# Altium schematic symbol library Modules.SchLib: 8 symbols
Pins are listed as number, name and electrical type; pins without a type are passive.

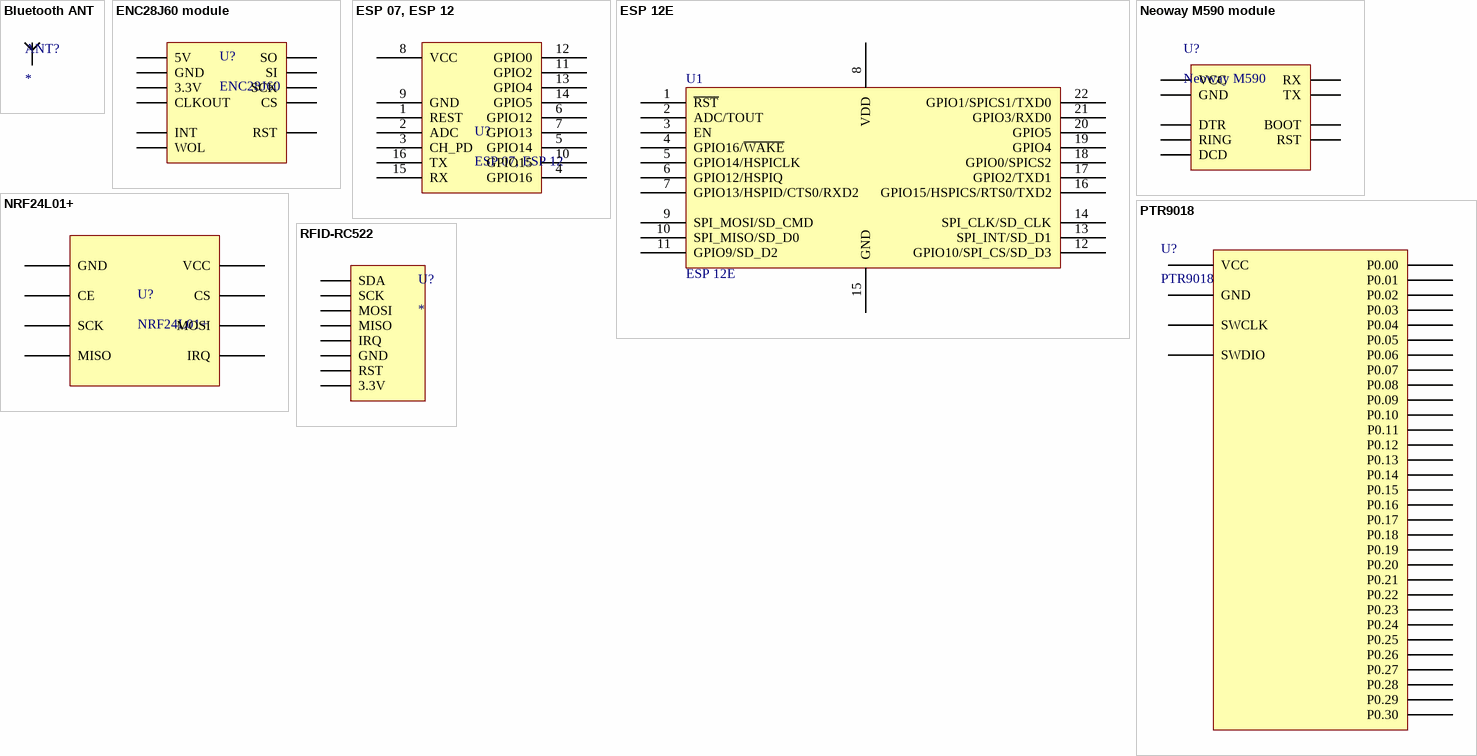
[diagram p0: symbols Bluetooth ANT to RFID-RC522]

## Bluetooth ANT
designator ANT?
for NRF51
footprint Bluetooth ant nrf51
pins: 1

## ENC28J60 module
designator U?, comment ENC28J60
Ethernet LAN module
footprint ENC28J60 module (ethernet module)
pins: 3.3V, 5V (power), CLKOUT, CS, GND (power), INT, RST, SCK, SI, SO, WOL

## ESP 07, ESP 12
designator U?
ESP8266
footprint ESP 07 (ESP-12 Wi-Fi Module by AI-Thinker)
footprint ESP 12 (ESP-12 Wi-Fi Module by AI-Thinker)
pins: 1 REST, 2 ADC, 3 CH_PD, 4 GPIO16, 5 GPIO14, 6 GPIO12, 7 GPIO13, 8 VCC, 9 GND, 10 GPIO15, 11 GPIO2, 12 GPIO0, 13 GPIO4, 14 GPIO5, 15 RX, 16 TX

## ESP 12E
designator U1
ESP8266; IC: ESP8266-EX; Vendor: Ai-thinker
footprint ESP 12E (ESP-12E Wi-Fi Module by AI-Thinker)
pins: 1 ~{RST} "Reset", 2 ADC/TOUT "ADC Input Or TOUT Output", 3 EN "Chip enable", 4 GPIO16/~{WAKE} "GPIO16 or Deep-Sleep Wakeup", 5 GPIO14/HSPICLK "GPIO14 or SPI CLK", 6 GPIO12/HSPIQ "GPIO12 or SPIQ", 7 GPIO13/HSPID/CTS0/RXD2 "GPIO13 or SPID", 8 VDD "Power supply", 9 SPI_MOSI/SD_CMD "GPIO14 or SPI CLK", 10 SPI_MISO/SD_D0 "GPIO12 or SPIQ", 11 GPIO9/SD_D2 "GPIO13 or SPID", 12 GPIO10/SPI_CS/SD_D3 "GPIO15 or SPICS", 13 SPI_INT/SD_D1 "GPIO2 or TX", 14 SPI_CLK/SD_CLK "GPIO0 or SPICS2", 15 GND "Power ground", 16 GPIO15/HSPICS/RTS0/TXD2 "GPIO15 or SPICS", 17 GPIO2/TXD1 "GPIO2 or TX", 18 GPIO0/SPICS2 "GPIO0 or SPICS2", 19 GPIO4 "GPIO5", 20 GPIO5 "GPIO4", 21 GPIO3/RXD0 "GPIO3 or UART RXD", 22 GPIO1/SPICS1/TXD0 "GPIO1 or UART TXD"

## Neoway M590 module
designator U?, comment Neoway M590
GSM, GPRS cullular module with SIM card slot
footprint Neoway M590 module SIM (GSM, GPRS cullular module)
pins: BOOT, DCD, DTR, GND, RING, RST, RX, TX, VCC

## NRF24L01+
designator U?
Wirless module 2.4GHz
footprint NRF24l01
footprint NRF24l01 ant
pins: 1 GND, 2 VCC, 3 CE, 4 CS, 5 SCK, 6 MOSI, 7 MISO, 8 IRQ

## PTR9018
designator U?
NRF51822 module BLE 4.0; Value: PTR9018
footprint PTR9018 (NRF51 module)
pins: GND, P0.00, P0.01, P0.02, P0.03, P0.04, P0.05, P0.06, P0.07, P0.08, P0.09, P0.10, P0.11, P0.12, P0.13, P0.14, P0.15, P0.16, P0.17, P0.18, P0.19, P0.20, P0.21, P0.22, P0.23, P0.24, P0.25, P0.26, P0.27, P0.28, P0.29, P0.30, SWCLK, SWDIO, VCC

## RFID-RC522
designator U?
RFID module
footprint RFID-RC522
pins: 1 SDA, 2 SCK, 3 MOSI, 4 MISO, 5 IRQ, 6 GND, 7 RST, 8 3.3V